# Altium schematic symbol library ICs_Reference.SchLib: 4 symbols
Pins are listed as number, name and electrical type; pins without a type are passive.

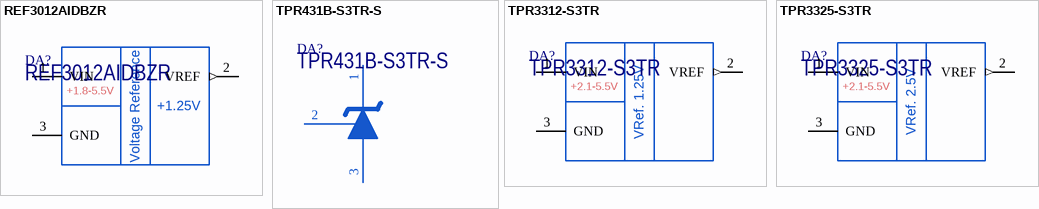
[diagram p0: symbols REF3012AIDBZR to TPR3325-S3TR]

## REF3012AIDBZR
designator DA?
50-ppm/°C Max, 50-μA, CMOS Voltage Reference; Manufacturer: Texas Instruments; Marking: R30A; ItemType: IC; PartNumber: REF3012AIDBZR; Package: SOT23-3; ItemSubType: Reference; Mounting: SMD
footprint SOT23_TO236AB (TO236AB (SOT23-3), 3-Leads, Body 1.30x2.90mm, Pitch 0.95mm)
pins: 1 VIN (power), 2 VREF (out), 3 GND (power)
text: +1.8-5.5V; Voltage Reference; +1.25V

## TPR431B-S3TR-S
designator DA?
Precision Programmable Reference; Manufacturer: 3PEAK; AltManufacturer1: Runic; Marking: R31; Alternative1: RS431AYSF3; ItemType: IC; PartNumber: TPR431B-S3TR-S; Package: SOT23-3; ItemSubType: Reference; Mounting: SMD
footprint SOT23_TO236AB (TO236AB (SOT23-3), 3-Leads, Body 1.30x2.90mm, Pitch 0.95mm)
pins: 1 CATHODE, 2 REF, 3 ANODE

## TPR3312-S3TR
designator DA?
50-ppm/°C Max, 50-μA, CMOS Voltage Reference; Manufacturer: 3PEAK; AltManufacturer1: Texas Instruments; Marking: R3A; Alternative1: REF3012AIDBZR; ItemType: IC; PartNumber: TPR3312-S3TR; Package: SOT23-3; ItemSubType: Reference; Mounting: SMD
footprint SOT23_TO236AB (TO236AB (SOT23-3), 3-Leads, Body 1.30x2.90mm, Pitch 0.95mm)
pins: 1 VIN (power), 2 VREF (out), 3 GND (power)
text: +2.1-5.5V; VRef. 1.25V

## TPR3325-S3TR
designator DA?
50-ppm/°C Max, 50-μA, CMOS Voltage Reference; Manufacturer: 3PEAK; AltManufacturer1: Texas Instruments; Marking: R3C; Alternative1: REF3025AIDBZR; ItemType: IC; PartNumber: TPR3325-S3TR; Package: SOT23-3; ItemSubType: Reference; Mounting: SMD
footprint SOT23_TO236AB (TO236AB (SOT23-3), 3-Leads, Body 1.30x2.90mm, Pitch 0.95mm)
pins: 1 VIN (power), 2 VREF (out), 3 GND (power)
text: +2.1-5.5V; VRef. 2.5V